# Altium integrated library Library.IntLib: 2 symbols
Pins are listed as number, name and electrical type; pins without a type are passive.

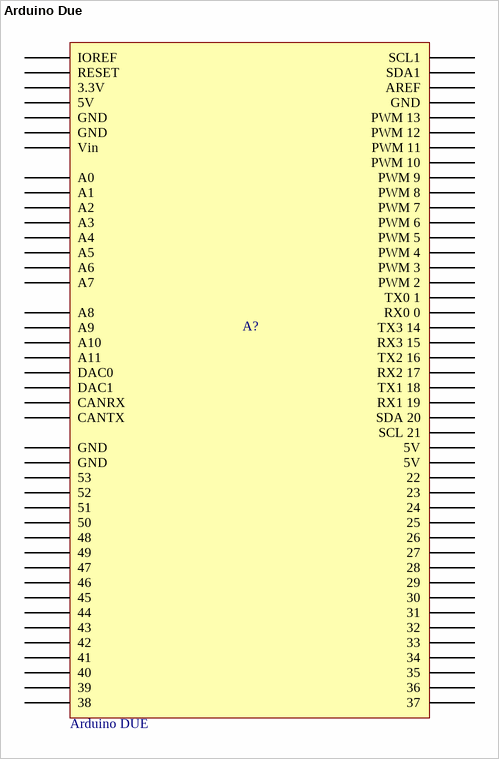
[diagram p0: symbol Arduino Due]

## Arduino Due
designator A?  (value not drawn)
footprint Arduino Due
pins: 2 PWM 2, 3 PWM 3, 3.3V, 4 PWM 4, 5 PWM 5, 5V, 5V 1 5V, 5V 2 5V, 6 PWM 6, 7 PWM 7, 8 PWM 8, 9 PWM 9, 10 PWM 10, 11 PWM 11, 12 PWM 12, 13 PWM 13, 22, 23, 24, 25, 26, 27, 28, 29, 30, 31, 32, 33, 34, 35, 36, 37, 38, 39, 40, 41, 42, 43, 44, 45, 46, 47, 48, 49, 50, 51, 52, 53, A0, A1, A2, A3, A4, A5, A6, A7, A8, A9, A10, A11, AREF, CANRX, CANTX, DAC0, DAC1, GND1 GND, GND2 GND, GND3 GND, GND4 GND, GND5 GND, IOREF, RESET, RX0 RX0 0, RX1 RX1 19, RX2 RX2 17, RX3 RX3 15, SCL SCL 21, SCL1, SDA SDA 20, SDA1, TX0 TX0 1, TX1 TX1 18, TX2 TX2 16, TX3 TX3 14, Vin


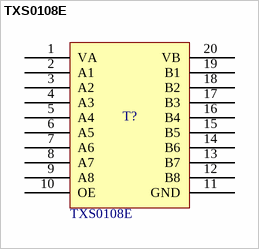
[diagram p1: symbol TXS0108E]

## TXS0108E
designator T?, comment Logic Level Converter  (value not drawn)
footprint TXS0108E
pins: 1 VA, 2 A1, 3 A2, 4 A3, 5 A4, 6 A5, 7 A6, 8 A7, 9 A8, 10 OE, 11 GND, 12 B8, 13 B7, 14 B6, 15 B5, 16 B4, 17 B3, 18 B2, 19 B1, 20 VB